# Altium schematic symbol library Valle-Schematic-Library.SchLib: 8 symbols
Pins are listed as number, name and electrical type; pins without a type are passive.

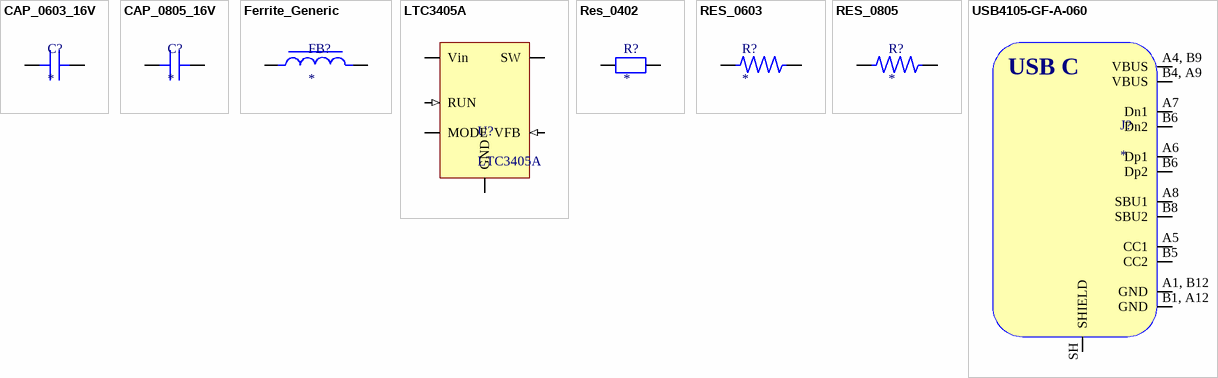
[diagram p0: symbols CAP_0603_16V to USB4105-GF-A-060]

## CAP_0603_16V
designator C?
Capacitor SMD 0603 16V
footprint CAP_0603(M) (Chip Capacitor, 2-Leads, Body 1.60x0.80mm, IPC Medium Density)
pins: 1, 2

## CAP_0805_16V
designator C?
Capacitor SMD 0805 16V
footprint CAP_0805 (Chip Capacitor, 2-Leads, Body 2.00x1.25mm, IPC Medium Density)
pins: 1, 2

## Ferrite_Generic
designator FB?
Generic Ferrite Bead
pins: 2, B10

## LTC3405A
designator U?
1.5MHz, 300mA Synchronous Step Down Regulator in Thin SOT; Manufacturer: *; Manufacture Part Number: *
footprint SOT-23(M) (SOT23, 6-Leads, Body 2.90x2.80mm, Pitch 0.95mm, IPC Medium Density)
pins: 1 RUN (in), 2 GND, 3 SW, 4 Vin, 5 VFB (in), 6 MODE

## Res_0402
designator R?
Resistor SMD 0402 Generic; Manufacturer: *; Manufacturer Part Number: *; Tolerance: *; Package Size: *; Volatage Rating: *
footprint Res_0402 (Chip Resistor, 2-Leads, Body 1.00x0.50mm, IPC Medium Density)
pins: 1, 2

## RES_0603
designator R?
Resistor SMD 0603
footprint RES_0603(M) (Chip Resistor, 2-Leads, Body 1.60x0.80mm, IPC Medium Density)
pins: 1, 2

## RES_0805
designator R?
Resistor SMD 0805
footprint RES_0805(M) (Chip Resistor, 2-Leads, Body 2.00x1.25mm, IPC Medium Density)
pins: 1, 2

## USB4105-GF-A-060
designator J?
USB Connector Type C
footprint USB4105-GF-A-060 (USB Connector Type C, 2.0 SMT PCB Top Mnt .60mm)
pins: A1, B12 GND, A4, B9 VBUS, A5 CC1, A6 Dp1, A7 Dn1, A8 SBU1, B1, A12 GND, B4, A9 VBUS, B5 CC2, B6 Dn2, B6 Dp2, B8 SBU2, SH SHIELD
text: USB C